# Altium footprint library Capacitors.PcbLib: 70 footprints (part 4 of 5)
Each footprint in its own frame and in the unit in brackets; x right, y up, seen from the top. Pads: shape width x height; smd on the part's side, far side on the other; paste and mask are expansions set on the pad; w line width, h text height; cw(c..) or ccw(c..) is an arc to the next point about the centre after c.
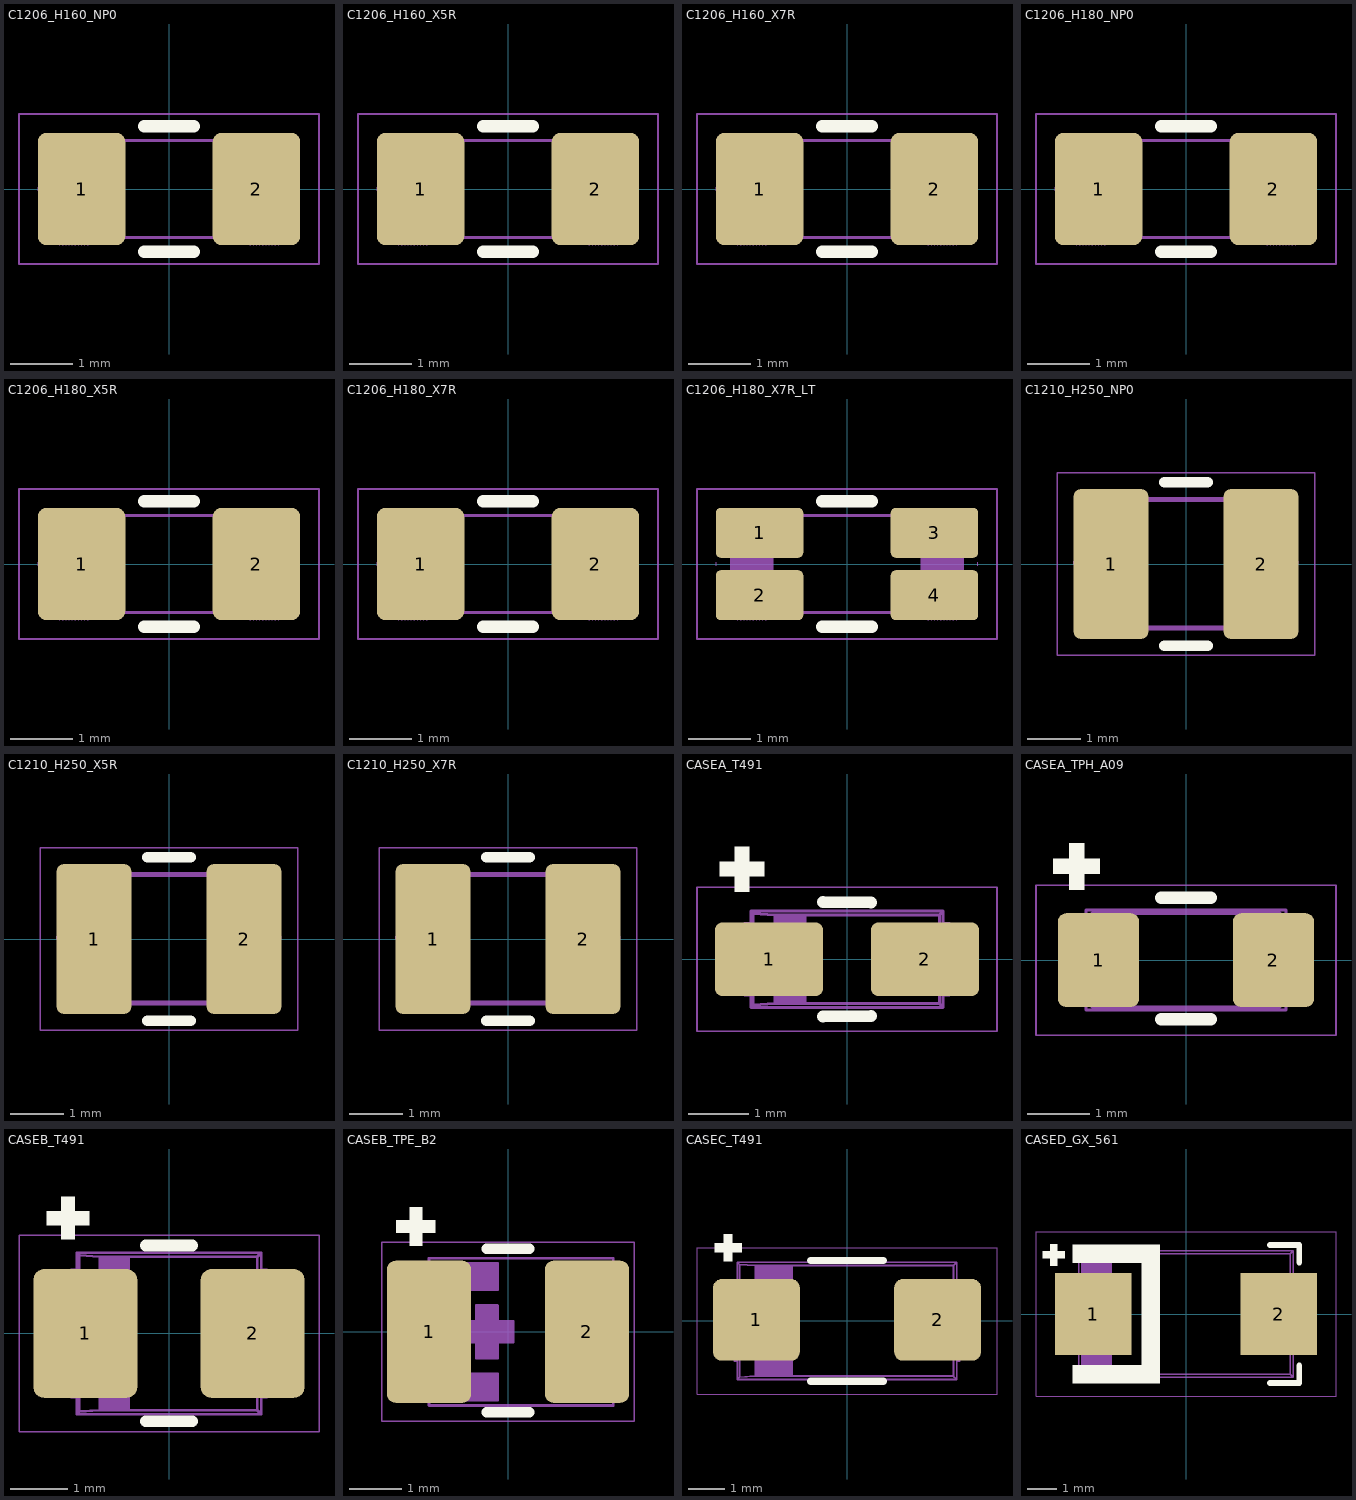
[diagram p3: the footprints below, top view; thin cyan lines are the x and y axes]

## C1206_H160_NP0 [mm] "SMD120632X16MM"
height 1.6
pads (2):
  rrect20% 1.4x1.8 smd paste-3 mask+0.05: 1(-1.4,0) 2(1.4,0)
Top Overlay:
  lines w0.2: -0.4,-1 0.4,-1 ; -0.4,1 0.4,1
Top Paste:
  drawing of 8 lines, arcs and shapes, not listed
Top Courtyard:
  lines w0.025: -2.4,-1.2 2.4,-1.2 2.4,1.2 -2.4,1.2 -2.4,-1.2
Top Assembly:
  lines w0.01: -2.095,-0.025 -2.095,0.025 ; 2.095,-0.025 2.095,0.025
  lines w0.05: -1.8,-0.825 -1.8,0.825 ; -1.7,-0.875 -1.7,0.875 ; -1.65,-0.875 -1.65,0.875 ; -1.6,-0.875 -1.6,0.875 ; -1.55,-0.875 -1.55,0.875 ; -1.5,-0.875 -1.5,0.875 ; -1.45,-0.875 -1.45,0.875 ; -1.4,-0.875 -1.4,0.875 ; -1.35,-0.875 -1.35,0.875 ; -1.25,-0.825 -1.25,0.825 ; 1.25,-0.825 1.25,0.825 ; 1.35,-0.875 1.35,0.875 ; 1.4,-0.875 1.4,0.875 ; 1.45,-0.875 1.45,0.875 ; 1.5,-0.875 1.5,0.875 ; 1.55,-0.875 1.55,0.875 ; 1.6,-0.875 1.6,0.875 ; 1.65,-0.875 1.65,0.875 ; 1.7,-0.875 1.7,0.875 ; 1.8,-0.825 1.8,0.825 ; -1.85,-0.775 ccw(c-1.75,-0.775) -1.75,-0.875 ; -1.85,-0.775 ccw(c-1.85,-0.775) -1.85,-0.775 ; -1.85,-0.775 -1.85,0.775 ; -1.85,0.775 cw(c-1.75,0.775) -1.75,0.875 ; -1.85,0.775 ccw(c-1.85,0.775) -1.85,0.775 ; -1.75,-0.875 -1.3,-0.875 ; -1.75,-0.875 -1.75,0.875 ; -1.75,0.875 -1.3,0.875 ; -1.3,-0.875 ccw(c-1.3,-0.775) -1.2,-0.775 ; -1.3,-0.875 -1.3,0.875 ; -1.3,0.875 cw(c-1.3,0.775) -1.2,0.775 ; -1.2,-0.775 -1.2,0.775 ; -1.2,-0.775 1.2,-0.775 ; -1.2,0.775 1.2,0.775 ; 1.2,-0.775 ccw(c1.3,-0.775) 1.3,-0.875 ; 1.2,-0.775 1.2,0.775 ; 1.2,0.775 cw(c1.3,0.775) 1.3,0.875 ; 1.3,-0.875 1.75,-0.875 ; 1.3,-0.875 1.75,-0.875 ; 1.3,-0.875 1.3,0.875 ; 1.3,0.875 1.75,0.875 ; 1.3,0.875 1.75,0.875 ; 1.75,-0.875 ccw(c1.75,-0.775) 1.85,-0.775 ; 1.75,-0.875 1.75,0.875 ; 1.75,0.875 cw(c1.75,0.775) 1.85,0.775 ; 1.85,-0.775 ccw(c1.85,-0.775) 1.85,-0.775 ; 1.85,-0.775 1.85,0.775 ; 1.85,0.775 ccw(c1.85,0.775) 1.85,0.775 ; 0.45,0.775 ccw(c0.45,0.775) 0.45,0.775
  text ".Designator" at -3.378,-0.339 h1.5
3D body "C1206_H160_NP0.x_t": height 1.6, standoff 0, extent -1.6,-0.8 1.6,0.8

## C1206_H160_X5R [mm] "SMD120632X16MM"
height 1.6
pads (2):
  rrect20% 1.4x1.8 smd paste-3 mask+0.05: 1(-1.4,0) 2(1.4,0)
Top Overlay:
  lines w0.2: -0.4,-1 0.4,-1 ; -0.4,1 0.4,1
Top Paste:
  drawing of 8 lines, arcs and shapes, not listed
Top Courtyard:
  lines w0.025: -2.4,-1.2 -2.4,1.2 2.4,1.2 2.4,-1.2 -2.4,-1.2
Top Assembly:
  lines w0.01: -2.095,-0.025 -2.095,0.025 ; 2.095,-0.025 2.095,0.025
  lines w0.05: -1.8,-0.825 -1.8,0.825 ; -1.7,-0.875 -1.7,0.875 ; -1.65,-0.875 -1.65,0.875 ; -1.6,-0.875 -1.6,0.875 ; -1.55,-0.875 -1.55,0.875 ; -1.5,-0.875 -1.5,0.875 ; -1.45,-0.875 -1.45,0.875 ; -1.4,-0.875 -1.4,0.875 ; -1.35,-0.875 -1.35,0.875 ; -1.25,-0.825 -1.25,0.825 ; 1.25,-0.825 1.25,0.825 ; 1.35,-0.875 1.35,0.875 ; 1.4,-0.875 1.4,0.875 ; 1.45,-0.875 1.45,0.875 ; 1.5,-0.875 1.5,0.875 ; 1.55,-0.875 1.55,0.875 ; 1.6,-0.875 1.6,0.875 ; 1.65,-0.875 1.65,0.875 ; 1.7,-0.875 1.7,0.875 ; 1.8,-0.825 1.8,0.825 ; -1.85,-0.775 ccw(c-1.85,-0.775) -1.85,-0.775 ; -1.85,-0.775 ccw(c-1.75,-0.775) -1.75,-0.875 ; -1.85,-0.775 -1.85,0.775 ; -1.85,0.775 ccw(c-1.85,0.775) -1.85,0.775 ; -1.85,0.775 cw(c-1.75,0.775) -1.75,0.875 ; -1.75,-0.875 -1.75,0.875 ; -1.75,-0.875 -1.3,-0.875 ; -1.75,0.875 -1.3,0.875 ; -1.3,-0.875 ccw(c-1.3,-0.775) -1.2,-0.775 ; -1.3,-0.875 -1.3,0.875 ; -1.3,0.875 cw(c-1.3,0.775) -1.2,0.775 ; -1.2,-0.775 1.2,-0.775 ; -1.2,-0.775 -1.2,0.775 ; -1.2,0.775 1.2,0.775 ; 1.2,-0.775 ccw(c1.3,-0.775) 1.3,-0.875 ; 1.2,-0.775 1.2,0.775 ; 1.2,0.775 cw(c1.3,0.775) 1.3,0.875 ; 1.3,-0.875 1.3,0.875 ; 1.3,-0.875 1.75,-0.875 ; 1.3,-0.875 1.75,-0.875 ; 1.3,0.875 1.75,0.875 ; 1.3,0.875 1.75,0.875 ; 1.75,-0.875 ccw(c1.75,-0.775) 1.85,-0.775 ; 1.75,-0.875 1.75,0.875 ; 1.75,0.875 cw(c1.75,0.775) 1.85,0.775 ; 1.85,-0.775 ccw(c1.85,-0.775) 1.85,-0.775 ; 1.85,-0.775 1.85,0.775 ; 1.85,0.775 ccw(c1.85,0.775) 1.85,0.775 ; 0.45,0.775 ccw(c0.45,0.775) 0.45,0.775
  text ".Designator" at -3.378,-0.339 h1.5
3D body "C1206_H160_X5R.x_t": height 1.6, standoff 0, extent -1.6,-0.8 1.6,0.8

## C1206_H160_X7R [mm] "SMD120632X16MM"
height 1.6
pads (2):
  rrect20% 1.4x1.8 smd paste-3 mask+0.05: 1(-1.4,0) 2(1.4,0)
Top Overlay:
  lines w0.2: -0.4,-1 0.4,-1 ; -0.4,1 0.4,1
Top Paste:
  drawing of 8 lines, arcs and shapes, not listed
Top Courtyard:
  lines w0.025: -2.4,-1.2 -2.4,1.2 2.4,1.2 2.4,-1.2 -2.4,-1.2
Top Assembly:
  lines w0.01: -2.095,-0.025 -2.095,0.025 ; 2.095,-0.025 2.095,0.025
  lines w0.05: -1.8,-0.825 -1.8,0.825 ; -1.7,-0.875 -1.7,0.875 ; -1.65,-0.875 -1.65,0.875 ; -1.6,-0.875 -1.6,0.875 ; -1.55,-0.875 -1.55,0.875 ; -1.5,-0.875 -1.5,0.875 ; -1.45,-0.875 -1.45,0.875 ; -1.4,-0.875 -1.4,0.875 ; -1.35,-0.875 -1.35,0.875 ; -1.25,-0.825 -1.25,0.825 ; 1.25,-0.825 1.25,0.825 ; 1.35,-0.875 1.35,0.875 ; 1.4,-0.875 1.4,0.875 ; 1.45,-0.875 1.45,0.875 ; 1.5,-0.875 1.5,0.875 ; 1.55,-0.875 1.55,0.875 ; 1.6,-0.875 1.6,0.875 ; 1.65,-0.875 1.65,0.875 ; 1.7,-0.875 1.7,0.875 ; 1.8,-0.825 1.8,0.825 ; -1.85,-0.775 ccw(c-1.85,-0.775) -1.85,-0.775 ; -1.85,-0.775 ccw(c-1.75,-0.775) -1.75,-0.875 ; -1.85,-0.775 -1.85,0.775 ; -1.85,0.775 ccw(c-1.85,0.775) -1.85,0.775 ; -1.85,0.775 cw(c-1.75,0.775) -1.75,0.875 ; -1.75,-0.875 -1.75,0.875 ; -1.75,-0.875 -1.3,-0.875 ; -1.75,0.875 -1.3,0.875 ; -1.3,-0.875 ccw(c-1.3,-0.775) -1.2,-0.775 ; -1.3,-0.875 -1.3,0.875 ; -1.3,0.875 cw(c-1.3,0.775) -1.2,0.775 ; -1.2,-0.775 1.2,-0.775 ; -1.2,-0.775 -1.2,0.775 ; -1.2,0.775 1.2,0.775 ; 1.2,-0.775 ccw(c1.3,-0.775) 1.3,-0.875 ; 1.2,-0.775 1.2,0.775 ; 1.2,0.775 cw(c1.3,0.775) 1.3,0.875 ; 1.3,-0.875 1.3,0.875 ; 1.3,-0.875 1.75,-0.875 ; 1.3,-0.875 1.75,-0.875 ; 1.3,0.875 1.75,0.875 ; 1.3,0.875 1.75,0.875 ; 1.75,-0.875 ccw(c1.75,-0.775) 1.85,-0.775 ; 1.75,-0.875 1.75,0.875 ; 1.75,0.875 cw(c1.75,0.775) 1.85,0.775 ; 1.85,-0.775 ccw(c1.85,-0.775) 1.85,-0.775 ; 1.85,-0.775 1.85,0.775 ; 1.85,0.775 ccw(c1.85,0.775) 1.85,0.775 ; 0.45,0.775 ccw(c0.45,0.775) 0.45,0.775
  text ".Designator" at -3.378,-0.339 h1.5
3D body "C1206_H160_X7R.x_t": height 1.6, standoff 0, extent -1.6,-0.8 1.6,0.8

## C1206_H180_NP0 [mm] "SMD120632X16MM"
height 1.8
pads (2):
  rrect20% 1.4x1.8 smd paste-3 mask+0.05: 1(-1.4,0) 2(1.4,0)
Top Overlay:
  lines w0.2: -0.4,-1 0.4,-1 ; -0.4,1 0.4,1
Top Paste:
  drawing of 8 lines, arcs and shapes, not listed
Top Courtyard:
  lines w0.025: -2.4,-1.2 -2.4,1.2 2.4,1.2 2.4,-1.2 -2.4,-1.2
Top Assembly:
  lines w0.01: -2.095,-0.025 -2.095,0.025 ; 2.095,-0.025 2.095,0.025
  lines w0.05: -1.8,-0.825 -1.8,0.825 ; -1.7,-0.875 -1.7,0.875 ; -1.65,-0.875 -1.65,0.875 ; -1.6,-0.875 -1.6,0.875 ; -1.55,-0.875 -1.55,0.875 ; -1.5,-0.875 -1.5,0.875 ; -1.45,-0.875 -1.45,0.875 ; -1.4,-0.875 -1.4,0.875 ; -1.35,-0.875 -1.35,0.875 ; -1.25,-0.825 -1.25,0.825 ; 1.25,-0.825 1.25,0.825 ; 1.35,-0.875 1.35,0.875 ; 1.4,-0.875 1.4,0.875 ; 1.45,-0.875 1.45,0.875 ; 1.5,-0.875 1.5,0.875 ; 1.55,-0.875 1.55,0.875 ; 1.6,-0.875 1.6,0.875 ; 1.65,-0.875 1.65,0.875 ; 1.7,-0.875 1.7,0.875 ; 1.8,-0.825 1.8,0.825 ; -1.85,-0.775 ccw(c-1.85,-0.775) -1.85,-0.775 ; -1.85,-0.775 ccw(c-1.75,-0.775) -1.75,-0.875 ; -1.85,-0.775 -1.85,0.775 ; -1.85,0.775 ccw(c-1.85,0.775) -1.85,0.775 ; -1.85,0.775 cw(c-1.75,0.775) -1.75,0.875 ; -1.75,-0.875 -1.75,0.875 ; -1.75,-0.875 -1.3,-0.875 ; -1.75,0.875 -1.3,0.875 ; -1.3,-0.875 ccw(c-1.3,-0.775) -1.2,-0.775 ; -1.3,-0.875 -1.3,0.875 ; -1.3,0.875 cw(c-1.3,0.775) -1.2,0.775 ; -1.2,-0.775 1.2,-0.775 ; -1.2,-0.775 -1.2,0.775 ; -1.2,0.775 1.2,0.775 ; 1.2,-0.775 ccw(c1.3,-0.775) 1.3,-0.875 ; 1.2,-0.775 1.2,0.775 ; 1.2,0.775 cw(c1.3,0.775) 1.3,0.875 ; 1.3,-0.875 1.3,0.875 ; 1.3,-0.875 1.75,-0.875 ; 1.3,-0.875 1.75,-0.875 ; 1.3,0.875 1.75,0.875 ; 1.3,0.875 1.75,0.875 ; 1.75,-0.875 ccw(c1.75,-0.775) 1.85,-0.775 ; 1.75,-0.875 1.75,0.875 ; 1.75,0.875 cw(c1.75,0.775) 1.85,0.775 ; 1.85,-0.775 ccw(c1.85,-0.775) 1.85,-0.775 ; 1.85,-0.775 1.85,0.775 ; 1.85,0.775 ccw(c1.85,0.775) 1.85,0.775 ; 0.45,0.775 ccw(c0.45,0.775) 0.45,0.775
  text ".Designator" at -3.378,-0.339 h1.5
3D body "C1206_H180_NP0.x_t": height 1.8, standoff 0, extent -1.6,-0.8 1.6,0.8

## C1206_H180_X5R [mm] "SMD120632X16MM"
height 1.8
pads (2):
  rrect20% 1.4x1.8 smd paste-3 mask+0.05: 1(-1.4,0) 2(1.4,0)
Top Overlay:
  lines w0.2: -0.4,-1 0.4,-1 ; -0.4,1 0.4,1
Top Paste:
  drawing of 8 lines, arcs and shapes, not listed
Top Courtyard:
  lines w0.025: -2.4,-1.2 -2.4,1.2 2.4,1.2 2.4,-1.2 -2.4,-1.2
Top Assembly:
  lines w0.01: -2.095,-0.025 -2.095,0.025 ; 2.095,-0.025 2.095,0.025
  lines w0.05: -1.8,-0.825 -1.8,0.825 ; -1.7,-0.875 -1.7,0.875 ; -1.65,-0.875 -1.65,0.875 ; -1.6,-0.875 -1.6,0.875 ; -1.55,-0.875 -1.55,0.875 ; -1.5,-0.875 -1.5,0.875 ; -1.45,-0.875 -1.45,0.875 ; -1.4,-0.875 -1.4,0.875 ; -1.35,-0.875 -1.35,0.875 ; -1.25,-0.825 -1.25,0.825 ; 1.25,-0.825 1.25,0.825 ; 1.35,-0.875 1.35,0.875 ; 1.4,-0.875 1.4,0.875 ; 1.45,-0.875 1.45,0.875 ; 1.5,-0.875 1.5,0.875 ; 1.55,-0.875 1.55,0.875 ; 1.6,-0.875 1.6,0.875 ; 1.65,-0.875 1.65,0.875 ; 1.7,-0.875 1.7,0.875 ; 1.8,-0.825 1.8,0.825 ; -1.85,-0.775 ccw(c-1.85,-0.775) -1.85,-0.775 ; -1.85,-0.775 ccw(c-1.75,-0.775) -1.75,-0.875 ; -1.85,-0.775 -1.85,0.775 ; -1.85,0.775 ccw(c-1.85,0.775) -1.85,0.775 ; -1.85,0.775 cw(c-1.75,0.775) -1.75,0.875 ; -1.75,-0.875 -1.75,0.875 ; -1.75,-0.875 -1.3,-0.875 ; -1.75,0.875 -1.3,0.875 ; -1.3,-0.875 ccw(c-1.3,-0.775) -1.2,-0.775 ; -1.3,-0.875 -1.3,0.875 ; -1.3,0.875 cw(c-1.3,0.775) -1.2,0.775 ; -1.2,-0.775 1.2,-0.775 ; -1.2,-0.775 -1.2,0.775 ; -1.2,0.775 1.2,0.775 ; 1.2,-0.775 ccw(c1.3,-0.775) 1.3,-0.875 ; 1.2,-0.775 1.2,0.775 ; 1.2,0.775 cw(c1.3,0.775) 1.3,0.875 ; 1.3,-0.875 1.3,0.875 ; 1.3,-0.875 1.75,-0.875 ; 1.3,-0.875 1.75,-0.875 ; 1.3,0.875 1.75,0.875 ; 1.3,0.875 1.75,0.875 ; 1.75,-0.875 ccw(c1.75,-0.775) 1.85,-0.775 ; 1.75,-0.875 1.75,0.875 ; 1.75,0.875 cw(c1.75,0.775) 1.85,0.775 ; 1.85,-0.775 ccw(c1.85,-0.775) 1.85,-0.775 ; 1.85,-0.775 1.85,0.775 ; 1.85,0.775 ccw(c1.85,0.775) 1.85,0.775 ; 0.45,0.775 ccw(c0.45,0.775) 0.45,0.775
  text ".Designator" at -3.378,-0.339 h1.5
3D body "C1206_H180_X5R.x_t": height 1.8, standoff 0, extent -1.6,-0.8 1.6,0.8

## C1206_H180_X7R [mm] "SMD120632X16MM"
height 1.8
pads (2):
  rrect20% 1.4x1.8 smd paste-3 mask+0.05: 1(-1.4,0) 2(1.4,0)
Top Overlay:
  lines w0.2: -0.4,-1 0.4,-1 ; -0.4,1 0.4,1
Top Paste:
  drawing of 8 lines, arcs and shapes, not listed
Top Courtyard:
  lines w0.025: -2.4,-1.2 2.4,-1.2 2.4,1.2 -2.4,1.2 -2.4,-1.2
Top Assembly:
  lines w0.01: -2.095,-0.025 -2.095,0.025 ; 2.095,-0.025 2.095,0.025
  lines w0.05: -1.8,-0.825 -1.8,0.825 ; -1.7,-0.875 -1.7,0.875 ; -1.65,-0.875 -1.65,0.875 ; -1.6,-0.875 -1.6,0.875 ; -1.55,-0.875 -1.55,0.875 ; -1.5,-0.875 -1.5,0.875 ; -1.45,-0.875 -1.45,0.875 ; -1.4,-0.875 -1.4,0.875 ; -1.35,-0.875 -1.35,0.875 ; -1.25,-0.825 -1.25,0.825 ; 1.25,-0.825 1.25,0.825 ; 1.35,-0.875 1.35,0.875 ; 1.4,-0.875 1.4,0.875 ; 1.45,-0.875 1.45,0.875 ; 1.5,-0.875 1.5,0.875 ; 1.55,-0.875 1.55,0.875 ; 1.6,-0.875 1.6,0.875 ; 1.65,-0.875 1.65,0.875 ; 1.7,-0.875 1.7,0.875 ; 1.8,-0.825 1.8,0.825 ; -1.85,-0.775 ccw(c-1.75,-0.775) -1.75,-0.875 ; -1.85,-0.775 ccw(c-1.85,-0.775) -1.85,-0.775 ; -1.85,-0.775 -1.85,0.775 ; -1.85,0.775 cw(c-1.75,0.775) -1.75,0.875 ; -1.85,0.775 ccw(c-1.85,0.775) -1.85,0.775 ; -1.75,-0.875 -1.3,-0.875 ; -1.75,-0.875 -1.75,0.875 ; -1.75,0.875 -1.3,0.875 ; -1.3,-0.875 ccw(c-1.3,-0.775) -1.2,-0.775 ; -1.3,-0.875 -1.3,0.875 ; -1.3,0.875 cw(c-1.3,0.775) -1.2,0.775 ; -1.2,-0.775 -1.2,0.775 ; -1.2,-0.775 1.2,-0.775 ; -1.2,0.775 1.2,0.775 ; 1.2,-0.775 ccw(c1.3,-0.775) 1.3,-0.875 ; 1.2,-0.775 1.2,0.775 ; 1.2,0.775 cw(c1.3,0.775) 1.3,0.875 ; 1.3,-0.875 1.75,-0.875 ; 1.3,-0.875 1.75,-0.875 ; 1.3,-0.875 1.3,0.875 ; 1.3,0.875 1.75,0.875 ; 1.3,0.875 1.75,0.875 ; 1.75,-0.875 ccw(c1.75,-0.775) 1.85,-0.775 ; 1.75,-0.875 1.75,0.875 ; 1.75,0.875 cw(c1.75,0.775) 1.85,0.775 ; 1.85,-0.775 ccw(c1.85,-0.775) 1.85,-0.775 ; 1.85,-0.775 1.85,0.775 ; 1.85,0.775 ccw(c1.85,0.775) 1.85,0.775 ; 0.45,0.775 ccw(c0.45,0.775) 0.45,0.775
  text ".Designator" at -3.378,-0.339 h1.5
3D body "C1206_H180_X7R.x_t": height 1.8, standoff 0, extent -1.6,-0.8 1.6,0.8

## C1206_H180_X7R_LT [mm] "SMD120632X16MM"
height 1.8
pads (4):
  rrect20% 1.4x0.8 smd mask+0.05: 1(-1.4,0.5) 2(-1.4,-0.5) 3(1.4,0.5) 4(1.4,-0.5)
Top Overlay:
  lines w0.2: -0.4,-1 0.4,-1 ; -0.4,1 0.4,1
Top Courtyard:
  lines w0.025: -2.4,-1.2 -2.4,1.2 2.4,1.2 2.4,-1.2 -2.4,-1.2
Top Assembly:
  lines w0.01: -2.095,-0.025 -2.095,0.025 ; 2.095,-0.025 2.095,0.025
  lines w0.05: -1.8,-0.825 -1.8,0.825 ; -1.7,-0.875 -1.7,0.875 ; -1.65,-0.875 -1.65,0.875 ; -1.6,-0.875 -1.6,0.875 ; -1.55,-0.875 -1.55,0.875 ; -1.5,-0.875 -1.5,0.875 ; -1.45,-0.875 -1.45,0.875 ; -1.4,-0.875 -1.4,0.875 ; -1.35,-0.875 -1.35,0.875 ; -1.25,-0.825 -1.25,0.825 ; 1.25,-0.825 1.25,0.825 ; 1.35,-0.875 1.35,0.875 ; 1.4,-0.875 1.4,0.875 ; 1.45,-0.875 1.45,0.875 ; 1.5,-0.875 1.5,0.875 ; 1.55,-0.875 1.55,0.875 ; 1.6,-0.875 1.6,0.875 ; 1.65,-0.875 1.65,0.875 ; 1.7,-0.875 1.7,0.875 ; 1.8,-0.825 1.8,0.825 ; -1.85,-0.775 ccw(c-1.85,-0.775) -1.85,-0.775 ; -1.85,-0.775 ccw(c-1.75,-0.775) -1.75,-0.875 ; -1.85,-0.775 -1.85,0.775 ; -1.85,0.775 ccw(c-1.85,0.775) -1.85,0.775 ; -1.85,0.775 cw(c-1.75,0.775) -1.75,0.875 ; -1.75,-0.875 -1.75,0.875 ; -1.75,-0.875 -1.3,-0.875 ; -1.75,0.875 -1.3,0.875 ; -1.3,-0.875 ccw(c-1.3,-0.775) -1.2,-0.775 ; -1.3,-0.875 -1.3,0.875 ; -1.3,0.875 cw(c-1.3,0.775) -1.2,0.775 ; -1.2,-0.775 1.2,-0.775 ; -1.2,-0.775 -1.2,0.775 ; -1.2,0.775 1.2,0.775 ; 1.2,-0.775 ccw(c1.3,-0.775) 1.3,-0.875 ; 1.2,-0.775 1.2,0.775 ; 1.2,0.775 cw(c1.3,0.775) 1.3,0.875 ; 1.3,-0.875 1.3,0.875 ; 1.3,-0.875 1.75,-0.875 ; 1.3,-0.875 1.75,-0.875 ; 1.3,0.875 1.75,0.875 ; 1.3,0.875 1.75,0.875 ; 1.75,-0.875 ccw(c1.75,-0.775) 1.85,-0.775 ; 1.75,-0.875 1.75,0.875 ; 1.75,0.875 cw(c1.75,0.775) 1.85,0.775 ; 1.85,-0.775 ccw(c1.85,-0.775) 1.85,-0.775 ; 1.85,-0.775 1.85,0.775 ; 1.85,0.775 ccw(c1.85,0.775) 1.85,0.775 ; 0.45,0.775 ccw(c0.45,0.775) 0.45,0.775
  text ".Designator" at -3.378,-0.339 h1.5
3D body "C1206_H180_X7R.x_t": height 1.8, standoff 0, extent -1.6,-0.8 1.6,0.8

## C1210_H250_NP0 [mm] "SMD121032X25MM"
height 2.5
pads (2):
  rrect20% 1.4x2.8 smd paste-3 mask+0.05: 1(-1.4,0) 2(1.4,0)
Top Overlay:
  lines w0.2: -0.4,-1.525 0.4,-1.525 ; -0.4,1.525 0.4,1.525
Top Paste:
  drawing of 12 lines, arcs and shapes, not listed
Top Courtyard:
  lines w0.025: -2.4,-1.7 2.4,-1.7 2.4,1.7 -2.4,1.7 -2.4,-1.7
Top Assembly:
  lines w0.01: -2.095,0 -2.095,0.05 ; 2.095,0 2.095,0.05
  lines w0.05: -1.538,-1.216 -1.538,1.224 ; -1.488,-1.216 -1.488,1.224 ; -1.438,-1.216 -1.438,1.224 ; -1.388,-1.216 -1.388,1.224 ; -1.338,-1.216 -1.338,1.224 ; -1.288,-1.216 -1.288,1.224 ; -1.238,-1.216 -1.238,1.224 ; -1.188,-1.216 -1.188,1.224 ; -1.138,-1.216 -1.138,1.224 ; -1.103,-1.176 1.097,-1.176 ; -1.103,1.184 1.097,1.184 ; 1.097,-1.216 -1.103,-1.216 ; 1.097,1.224 -1.103,1.224 ; 1.138,-1.216 1.138,1.224 ; 1.188,-1.216 1.188,1.224 ; 1.238,-1.216 1.238,1.224 ; 1.288,-1.216 1.288,1.224 ; 1.338,-1.216 1.338,1.224 ; 1.388,-1.216 1.388,1.224 ; 1.438,-1.216 1.438,1.224 ; 1.488,-1.216 1.488,1.224 ; 1.538,-1.216 1.538,1.224 ; -1.603,-1.216 ccw(c-1.573,-1.216) -1.573,-1.246 ; -1.603,-1.216 -1.603,1.224 ; -1.603,-1.216 -1.573,-1.216 ; -1.603,1.224 cw(c-1.573,1.224) -1.573,1.254 ; -1.603,1.224 -1.573,1.224 ; -1.573,-1.246 -1.103,-1.246 -1.103,-1.216 ; -1.573,-1.246 -1.573,-1.216 ; -1.573,-1.216 -1.573,1.224 ; -1.573,-1.216 -1.103,-1.216 ; -1.573,1.224 -1.103,1.224 ; -1.573,1.224 -1.573,1.254 ; -1.573,1.254 -1.103,1.254 -1.103,1.224 ; -1.103,-1.216 -1.103,1.224 ; 1.103,-1.216 1.103,1.224 ; 1.103,-1.216 1.103,-1.246 1.573,-1.246 ; 1.103,-1.216 1.573,-1.216 ; 1.103,1.224 1.103,1.254 1.573,1.254 ; 1.103,1.224 1.573,1.224 ; 1.573,-1.246 ccw(c1.573,-1.216) 1.603,-1.216 ; 1.573,-1.246 1.573,-1.216 ; 1.573,-1.216 1.573,1.224 ; 1.573,-1.216 1.603,-1.216 ; 1.573,1.224 1.603,1.224 ; 1.573,1.224 1.573,1.254 ; 1.573,1.254 cw(c1.573,1.224) 1.603,1.224 ; 1.603,-1.216 1.603,1.224
  text ".Designator" at -3.378,-0.339 h1.5
3D body "C1210_H250_NP0.x_t": height 2.5, standoff 0, extent -1.6,-1.25 1.6,1.25

## C1210_H250_X5R [mm] "SMD121032X25MM"
height 2.5
pads (2):
  rrect20% 1.4x2.8 smd paste-3 mask+0.05: 1(-1.4,0) 2(1.4,0)
Top Overlay:
  lines w0.2: -0.4,-1.525 0.4,-1.525 ; -0.4,1.525 0.4,1.525
Top Paste:
  drawing of 12 lines, arcs and shapes, not listed
Top Courtyard:
  lines w0.025: -2.4,-1.7 2.4,-1.7 2.4,1.7 -2.4,1.7 -2.4,-1.7
Top Assembly:
  lines w0.01: -2.095,0 -2.095,0.05 ; 2.095,0 2.095,0.05
  lines w0.05: -1.538,-1.216 -1.538,1.224 ; -1.488,-1.216 -1.488,1.224 ; -1.438,-1.216 -1.438,1.224 ; -1.388,-1.216 -1.388,1.224 ; -1.338,-1.216 -1.338,1.224 ; -1.288,-1.216 -1.288,1.224 ; -1.238,-1.216 -1.238,1.224 ; -1.188,-1.216 -1.188,1.224 ; -1.138,-1.216 -1.138,1.224 ; -1.103,-1.176 1.097,-1.176 ; -1.103,1.184 1.097,1.184 ; 1.097,-1.216 -1.103,-1.216 ; 1.097,1.224 -1.103,1.224 ; 1.138,-1.216 1.138,1.224 ; 1.188,-1.216 1.188,1.224 ; 1.238,-1.216 1.238,1.224 ; 1.288,-1.216 1.288,1.224 ; 1.338,-1.216 1.338,1.224 ; 1.388,-1.216 1.388,1.224 ; 1.438,-1.216 1.438,1.224 ; 1.488,-1.216 1.488,1.224 ; 1.538,-1.216 1.538,1.224 ; -1.603,-1.216 ccw(c-1.573,-1.216) -1.573,-1.246 ; -1.603,-1.216 -1.573,-1.216 ; -1.603,-1.216 -1.603,1.224 ; -1.603,1.224 cw(c-1.573,1.224) -1.573,1.254 ; -1.603,1.224 -1.573,1.224 ; -1.573,-1.246 -1.573,-1.216 ; -1.573,-1.246 -1.103,-1.246 -1.103,-1.216 ; -1.573,-1.216 -1.103,-1.216 ; -1.573,-1.216 -1.573,1.224 ; -1.573,1.224 -1.573,1.254 ; -1.573,1.224 -1.103,1.224 ; -1.573,1.254 -1.103,1.254 -1.103,1.224 ; -1.103,-1.216 -1.103,1.224 ; 1.103,-1.216 1.573,-1.216 ; 1.103,-1.216 1.103,-1.246 1.573,-1.246 ; 1.103,-1.216 1.103,1.224 ; 1.103,1.224 1.573,1.224 ; 1.103,1.224 1.103,1.254 1.573,1.254 ; 1.573,-1.246 ccw(c1.573,-1.216) 1.603,-1.216 ; 1.573,-1.246 1.573,-1.216 ; 1.573,-1.216 1.603,-1.216 ; 1.573,-1.216 1.573,1.224 ; 1.573,1.224 1.573,1.254 ; 1.573,1.224 1.603,1.224 ; 1.573,1.254 cw(c1.573,1.224) 1.603,1.224 ; 1.603,-1.216 1.603,1.224
  text ".Designator" at -3.378,-0.339 h1.5
3D body "C1210_H250_X5R.x_t": height 2.5, standoff 0, extent -1.6,-1.25 1.6,1.25

## C1210_H250_X7R [mm] "SMD121032X25MM"
height 2.5
pads (2):
  rrect20% 1.4x2.8 smd paste-3 mask+0.05: 1(-1.4,0) 2(1.4,0)
Top Overlay:
  lines w0.2: -0.4,-1.525 0.4,-1.525 ; -0.4,1.525 0.4,1.525
Top Paste:
  drawing of 12 lines, arcs and shapes, not listed
Top Courtyard:
  lines w0.025: -2.4,-1.7 -2.4,1.7 2.4,1.7 2.4,-1.7 -2.4,-1.7
Top Assembly:
  lines w0.01: -2.095,0 -2.095,0.05 ; 2.095,0 2.095,0.05
  lines w0.05: -1.538,-1.216 -1.538,1.224 ; -1.488,-1.216 -1.488,1.224 ; -1.438,-1.216 -1.438,1.224 ; -1.388,-1.216 -1.388,1.224 ; -1.338,-1.216 -1.338,1.224 ; -1.288,-1.216 -1.288,1.224 ; -1.238,-1.216 -1.238,1.224 ; -1.188,-1.216 -1.188,1.224 ; -1.138,-1.216 -1.138,1.224 ; -1.103,-1.176 1.097,-1.176 ; -1.103,1.184 1.097,1.184 ; 1.097,-1.216 -1.103,-1.216 ; 1.097,1.224 -1.103,1.224 ; 1.138,-1.216 1.138,1.224 ; 1.188,-1.216 1.188,1.224 ; 1.238,-1.216 1.238,1.224 ; 1.288,-1.216 1.288,1.224 ; 1.338,-1.216 1.338,1.224 ; 1.388,-1.216 1.388,1.224 ; 1.438,-1.216 1.438,1.224 ; 1.488,-1.216 1.488,1.224 ; 1.538,-1.216 1.538,1.224 ; -1.603,-1.216 ccw(c-1.573,-1.216) -1.573,-1.246 ; -1.603,-1.216 -1.603,1.224 ; -1.603,-1.216 -1.573,-1.216 ; -1.603,1.224 cw(c-1.573,1.224) -1.573,1.254 ; -1.603,1.224 -1.573,1.224 ; -1.573,-1.246 -1.103,-1.246 -1.103,-1.216 ; -1.573,-1.246 -1.573,-1.216 ; -1.573,-1.216 -1.573,1.224 ; -1.573,-1.216 -1.103,-1.216 ; -1.573,1.224 -1.103,1.224 ; -1.573,1.224 -1.573,1.254 ; -1.573,1.254 -1.103,1.254 -1.103,1.224 ; -1.103,-1.216 -1.103,1.224 ; 1.103,-1.216 1.103,1.224 ; 1.103,-1.216 1.103,-1.246 1.573,-1.246 ; 1.103,-1.216 1.573,-1.216 ; 1.103,1.224 1.103,1.254 1.573,1.254 ; 1.103,1.224 1.573,1.224 ; 1.573,-1.246 ccw(c1.573,-1.216) 1.603,-1.216 ; 1.573,-1.246 1.573,-1.216 ; 1.573,-1.216 1.573,1.224 ; 1.573,-1.216 1.603,-1.216 ; 1.573,1.224 1.603,1.224 ; 1.573,1.224 1.573,1.254 ; 1.573,1.254 cw(c1.573,1.224) 1.603,1.224 ; 1.603,-1.216 1.603,1.224
  text ".Designator" at -3.378,-0.339 h1.5
3D body "C1210_H250_X7R.x_t": height 2.5, standoff 0, extent -1.6,-1.25 1.6,1.25

## CASEA_T491 [mm] "Capacitor Case A T491 Series KEMET. Density Level B"
height 1.6
pads (2):
  rrect20% 1.8x1.23 smd paste-3 mask+0.05: 1(-1.3,0) 2(1.3,0)
Top Overlay:
  rectangle: -1.875,1.125 -1.625,1.875
  rectangle: -2.125,1.375 -1.375,1.625
  lines w0.2: -0.4,-0.95 0.4,-0.95 ; -0.4,0.95 0.4,0.95
Top Paste:
  drawing of 8 lines, arcs and shapes, not listed
Top Courtyard:
  lines w0.025: -2.5,-1.2 -2.5,1.2 2.5,1.2 2.5,-1.2 -2.5,-1.2
Top Assembly:
  lines w0.05: -1.71,-0.2 -1.6,-0.2 ; -1.71,0.2 -1.6,0.2 ; -1.61,-0.6 -1.61,-0.2 ; -1.61,0.2 -1.61,0.6 ; -1.6,-0.6 -1.71,-0.6 -1.71,0.6 -1.6,0.6 ; -1.15,-0.741 -1.15,0.741 ; -1.1,-0.741 -1.1,0.741 ; -1.05,-0.741 -1.05,0.741 ; -1,-0.741 -1,0.741 ; -0.95,-0.741 -0.95,0.741 ; -0.9,-0.741 -0.9,0.741 ; -0.85,-0.741 -0.85,0.741 ; -0.8,-0.741 -0.8,0.741 ; -0.75,-0.741 -0.75,0.741 ; -0.7,-0.741 -0.7,0.741 ; 1.6,-0.6 1.71,-0.6 1.71,0.6 1.6,0.6 ; 1.6,-0.2 1.71,-0.2 ; 1.6,0.2 1.71,0.2 ; 1.61,-0.6 1.61,-0.2 ; 1.61,0.2 1.61,0.6 ; -1.6,-0.8 -1.6,0.8 ; -1.6,-0.8 -1.566,-0.766 ; -1.6,-0.8 1.6,-0.8 ; -1.6,0.8 1.6,0.8 ; -1.6,0.8 -1.566,0.766 ; -1.566,-0.766 -1.566,0.766 ; -1.566,-0.766 -1.2,-0.741 ; -1.566,0.766 -1.2,0.741 ; -1.2,-0.741 -1.2,0.741 ; -1.2,-0.741 1.541,-0.741 ; -1.2,0.741 1.541,0.741 ; 1.541,-0.741 1.6,-0.8 ; 1.541,-0.741 1.541,0.741 ; 1.541,0.741 1.6,0.8 ; 1.6,-0.8 1.6,0.8
  text ".Designator" at -2.284,-0.271 h1.2
3D body "CASEA_T491.x_t": height 1.63, standoff -0.03, extent -1.709,-0.8 1.71,0.8

## CASEA_TPH_A09 [mm] "Capacitor TPH-Series A09 Package"
height 0.9
pads (2):
  rrect20% 1.3x1.5 smd mask+0.05: 1(-1.4,0) 2(1.4,0)
Top Overlay:
  rectangle: -2.125,1.375 -1.375,1.625
  rectangle: -1.875,1.125 -1.625,1.875
  lines w0.2: -0.4,-0.95 0.4,-0.95 ; -0.4,1 0.4,1
Top Courtyard:
  lines w0.025: -2.4,-1.2 2.4,-1.2 2.4,1.2 -2.4,1.2 -2.4,-1.2
Top Assembly:
  circle w0.05: c-1.15,0 r0.325
  lines w0.05: -1.6,-0.6 -1.7,-0.6 -1.7,0.6 -1.6,0.6 ; 1.6,-0.6 1.7,-0.6 1.7,0.6 1.6,0.6 ; -1.6,-0.8 1.6,-0.8 1.6,0.8 -1.6,0.8 -1.6,-0.8 ; -1.55,-0.7 cw(c-1.55,-0.75) -1.5,-0.75 1.5,-0.75 cw(c1.55,-0.75) 1.55,-0.7 1.55,0.7 cw(c1.55,0.75) 1.5,0.75 -1.5,0.75 cw(c-1.55,0.75) -1.55,0.7 -1.55,-0.7
  text ".Designator" at -2.252,-0.226 h1
3D body "TPH_A09.x_t": height 0.89, standoff 0, extent -1.7,-0.8 1.7,0.8

## CASEB_T491 [mm] "Capacitor Case B T491 Series KEMET. Density Level B"
height 1.9
pads (2):
  rrect20% 1.8x2.23 smd paste-3 mask+0.05: 1(-1.45,0) 2(1.45,0)
Top Overlay:
  rectangle: -2.125,1.875 -1.375,2.125
  rectangle: -1.875,1.625 -1.625,2.375
  lines w0.2: -0.4,-1.525 0.4,-1.525 ; -0.4,1.525 0.4,1.525
Top Paste:
  drawing of 8 lines, arcs and shapes, not listed
Top Courtyard:
  lines w0.025: -2.6,-1.7 -2.6,1.7 2.6,1.7 2.6,-1.7 -2.6,-1.7
Top Assembly:
  lines w0.05: -1.699,-0.5 -1.6,-0.5 ; -1.699,0.5 -1.6,0.5 ; -1.6,-1.1 -1.699,-1.1 -1.699,1.1 -1.6,1.1 ; -1.15,-1.33 -1.15,1.33 ; -1.1,-1.33 -1.1,1.33 ; -1.05,-1.33 -1.05,1.33 ; -1,-1.33 -1,1.33 ; -0.95,-1.33 -0.95,1.33 ; -0.9,-1.33 -0.9,1.33 ; -0.85,-1.33 -0.85,1.33 ; -0.8,-1.33 -0.8,1.33 ; -0.75,-1.33 -0.75,1.33 ; -0.7,-1.33 -0.7,1.33 ; 1.6,-1.1 1.699,-1.1 1.699,1.1 1.6,1.1 ; 1.6,-0.5 1.699,-0.5 ; 1.6,0.5 1.699,0.5 ; -1.6,-1.4 1.6,-1.4 ; -1.6,-1.4 -1.555,-1.355 ; -1.6,-1.4 -1.6,1.4 ; -1.6,1.4 -1.555,1.355 ; -1.6,1.4 1.6,1.4 ; -1.555,-1.355 -1.2,-1.33 ; -1.555,-1.355 -1.555,1.355 ; -1.555,1.355 -1.2,1.33 ; -1.2,-1.33 1.53,-1.33 ; -1.2,-1.33 -1.2,1.33 ; -1.2,1.33 1.53,1.33 ; 1.53,-1.33 1.6,-1.4 ; 1.53,-1.33 1.53,1.33 ; 1.53,1.33 1.6,1.4 ; 1.6,-1.4 1.6,1.4
  text ".Designator" at -2.289,-0.271 h1.2
3D body "CASEB_T491.x_t": height 1.93, standoff -0.03, extent -1.699,-1.4 1.699,1.4

## CASEB_TPE_B2 [mm] "Capacitor TPE-Series B2 Package"
height 1.9
pads (2):
  rrect20% 1.6x2.7 smd paste-3 mask+0.05: 1(-1.5,0) 2(1.5,0)
Top Overlay:
  rectangle: -1.875,1.625 -1.625,2.375
  rectangle: -2.125,1.875 -1.375,2.125
  lines w0.2: -0.4,-1.525 0.4,-1.525 ; -0.4,1.575 0.4,1.575
Top Paste:
  drawing of 8 lines, arcs and shapes, not listed
Top Courtyard:
  lines w0.025: -2.4,-1.7 -2.4,1.7 2.4,1.7 2.4,-1.7 -2.4,-1.7
Top Assembly:
  lines w0.05: -1.5,-1.1 -1.7,-1.1 -1.7,1.1 -1.5,1.1 ; -1.35,-1.3 -1.35,1.3 ; -1.3,-1.3 -1.3,1.3 ; -1.25,-1.3 -1.25,1.3 ; -1.2,-1.3 -1.2,1.3 ; -1.15,-1.3 -1.15,1.3 ; -1.1,-1.3 -1.1,-0.8 ; -1.1,1.3 -1.1,0.8 ; -1.05,-1.3 -1.05,-0.8 ; -1.05,0.8 -1.05,1.3 ; -1,-1.3 -1,-0.8 ; -1,0.8 -1,1.3 ; -0.95,-1.3 -0.95,-0.8 ; -0.95,0.8 -0.95,1.3 ; -0.9,-1.3 -0.9,-0.8 ; -0.9,0.8 -0.9,1.3 ; -0.85,-1.3 -0.85,-0.8 ; -0.85,-0.2 -0.85,0.2 ; -0.85,0.8 -0.85,1.3 ; -0.8,-1.3 -0.8,-0.8 ; -0.8,-0.2 -0.8,0.2 ; -0.8,0.8 -0.8,1.3 ; -0.75,-1.3 -0.75,-0.8 ; -0.75,-0.2 -0.75,0.2 ; -0.75,0.8 -0.75,1.3 ; -0.7,-1.3 -0.7,-0.8 ; -0.7,-0.2 -0.7,0.2 ; -0.7,0.8 -0.7,1.3 ; -0.65,-1.3 -0.65,-0.8 ; -0.65,-0.2 -0.65,0.2 ; -0.65,0.8 -0.65,1.3 ; -0.601,-0.188 -0.601,0.212 ; -0.6,-1.3 -0.6,-0.8 ; -0.6,0.8 -0.6,1.3 ; -0.55,-1.3 -0.55,-0.8 ; -0.55,-0.5 -0.55,0.5 ; -0.55,0.8 -0.55,1.3 ; -0.5,-1.3 -0.5,-0.8 ; -0.5,-0.5 -0.5,0.5 ; -0.5,0.8 -0.5,1.3 ; -0.45,-1.3 -0.45,-0.8 ; -0.45,-0.5 -0.45,0.5 ; -0.45,0.8 -0.45,1.3 ; -0.4,-1.3 -0.4,-0.8 ; -0.4,-0.5 -0.4,0.5 ; -0.4,0.8 -0.4,1.3 ; -0.35,-1.3 -0.35,-0.8 ; -0.35,-0.5 -0.35,0.5 ; -0.35,0.8 -0.35,1.3 ; -0.3,-1.3 -0.3,-0.8 ; -0.3,-0.5 -0.3,0.5 ; -0.3,0.8 -0.3,1.3 ; -0.25,-1.3 -0.25,-0.8 ; -0.25,-0.5 -0.25,0.5 ; -0.25,0.8 -0.25,1.3 ; -0.15,-0.2 -0.15,0.2 ; -0.1,-0.2 -0.1,0.2 ; -0.05,-0.2 -0.05,0.2 ; 0,-0.2 0,0.2 ; 0.05,-0.2 0.05,0.2 ; 2,-1.1 2.2,-1.1 2.2,1.1 2,1.1 ; -1.1,-0.8 -0.2,-0.8 -0.2,-1.3 -1.4,-1.3 -1.4,1.3 -0.2,1.3 -0.2,0.8 -1.1,0.8 ; -1.1,-0.8 -1.1,0.8 ; -0.2,-0.2 -0.2,0.2 ; -0.2,-0.2 0.1,-0.2 0.1,0.2 -0.2,0.2 ; -0.2,-0.2 -0.2,-0.5 -0.6,-0.5 -0.6,-0.2 -0.9,-0.2 -0.9,0.2 -0.6,0.2 -0.6,0.5 -0.2,0.5 -0.2,0.2 ; -1.5,-1.4 2,-1.4 2,1.4 -1.5,1.4 -1.5,-1.4
  text ".Designator" at -2.378,-0.339 h1.5
3D body "TPE_B2.x_t": height 1.9, standoff 0, extent -1.975,-1.4 1.925,1.4

## CASEC_T491 [mm] "Capacitor Case C T491 Series KEMET. Density Level B"
height 2.5
pads (2):
  rrect20% 2.37x2.23 smd paste-50 mask+0.05: 1(-2.475,0.025) 2(2.475,0.025)
Top Overlay:
  rectangle: -3.625,1.875 -2.875,2.125
  rectangle: -3.375,1.625 -3.125,2.375
  lines w0.2: -1,-1.65 1,-1.65 ; -1,1.65 1,1.65
Top Paste:
  drawing of 8 lines, arcs and shapes, not listed
Top Courtyard:
  lines w0.025: -4.1,-2 -4.1,2 4.1,2 4.1,-2 -4.1,-2
Top Assembly:
  lines w0.05: -3.078,-0.5 -3,-0.5 ; -3.078,0.5 -3,0.5 ; -3,-1.1 -3.078,-1.1 -3.078,1.1 -3,1.1 ; -2.45,-1.509 -2.45,1.509 ; -2.4,-1.509 -2.4,1.509 ; -2.35,-1.509 -2.35,1.509 ; -2.3,-1.509 -2.3,1.509 ; -2.25,-1.509 -2.25,1.509 ; -2.2,-1.509 -2.2,1.509 ; -2.15,-1.509 -2.15,1.509 ; -2.1,-1.509 -2.1,1.509 ; -2.05,-1.509 -2.05,1.509 ; -2,-1.509 -2,1.509 ; -1.95,-1.509 -1.95,1.509 ; -1.9,-1.509 -1.9,1.509 ; -1.85,-1.509 -1.85,1.509 ; -1.8,-1.509 -1.8,1.509 ; -1.75,-1.509 -1.75,1.509 ; -1.7,-1.509 -1.7,1.509 ; -1.65,-1.509 -1.65,1.509 ; -1.6,-1.509 -1.6,1.509 ; -1.55,-1.509 -1.55,1.509 ; -1.5,-1.509 -1.5,1.509 ; 3,-1.1 3.078,-1.1 3.078,1.1 3,1.1 ; 3,-0.5 3.078,-0.5 ; 3,0.5 3.078,0.5 ; -3,-1.6 -3,1.6 ; -3,-1.6 -2.94,-1.54 ; -3,-1.6 3,-1.6 ; -3,1.6 3,1.6 ; -3,1.6 -2.94,1.54 ; -2.94,-1.54 -2.94,1.54 ; -2.94,-1.54 -2.5,-1.509 ; -2.94,1.54 -2.5,1.509 ; -2.5,-1.509 -2.5,1.509 ; -2.5,-1.509 2.909,-1.509 ; -2.5,1.509 2.909,1.509 ; 2.909,-1.509 2.909,1.509 ; 2.909,-1.509 3,-1.6 ; 2.909,1.509 3,1.6 ; 3,-1.6 3,1.6
  text ".Designator" at -3.806,-0.453 h2
3D body "CASEC_T491.x_t": height 2.53, standoff -0.03, extent -3.078,-1.6 3.078,1.6

## CASED_GX_561 [mm] "Capacitor GX-Series"
height 1.9
pads (2):
  rect 2.6x2.8 smd paste-50 mask+0.05: 1(-3.15,0) 2(3.15,0)
Top Overlay:
  rectangle: -4.871,1.884 -4.121,2.134
  rectangle: -4.621,1.634 -4.371,2.384
  region: -3.85,-1.75 -1.5,-1.75 -1.5,1.75 -3.85,1.75 -3.85,2.35 -0.9,2.35 -0.9,-2.35 -3.85,-2.35
  lines w0.2: 2.85,-2.35 3.85,-2.35 3.85,-1.75 ; 2.85,2.35 3.85,2.35 3.85,1.75
Top Paste:
  region: 4.4,-0.55 3.7,-0.55 3.7,-1.25 4.4,-1.25
  region: 2.6,-0.55 1.9,-0.55 1.9,-1.25 2.6,-1.25
  region: 3.5,-0.55 2.8,-0.55 2.8,-1.25 3.5,-1.25
  region: 1.9,1.25 1.9,0.55 2.6,0.55 2.6,1.25
  region: 2.8,1.25 2.8,0.55 3.5,0.55 3.5,1.25
  region: 3.7,1.25 3.7,0.55 4.4,0.55 4.4,1.25
  region: 4.4,0.35 3.7,0.35 3.7,-0.35 4.4,-0.35
  region: 2.6,0.35 1.9,0.35 1.9,-0.35 2.6,-0.35
  region: 3.5,0.35 2.8,0.35 2.8,-0.35 3.5,-0.35
  rectangle: -4.4,-1.25 -3.7,-0.55
  rectangle: -2.6,-1.25 -1.9,-0.55
  rectangle: -3.5,-1.25 -2.8,-0.55
  region: -2.6,1.25 -2.6,0.55 -1.9,0.55 -1.9,1.25
  region: -3.5,1.25 -3.5,0.55 -2.8,0.55 -2.8,1.25
  region: -4.4,1.25 -4.4,0.55 -3.7,0.55 -3.7,1.25
  rectangle: -4.4,-0.35 -3.7,0.35
  rectangle: -2.6,-0.35 -1.9,0.35
  rectangle: -3.5,-0.35 -2.8,0.35
Top Courtyard:
  lines w0.025: -5.1,-2.8 5.1,-2.8 5.1,2.8 -5.1,2.8 -5.1,-2.8
Top Assembly:
  lines w0.05: -3.7,-1.05 -3.609,-1.05 ; -3.7,1.05 -3.609,1.05 ; -3.65,-1.2 -3.65,-2.15 ; -3.65,1.2 -3.65,2.15 ; -3.5,-2.05 -3.5,2.05 ; -3.45,-2.05 -3.45,2.05 ; -3.4,-2.05 -3.4,2.05 ; -3.35,-2.05 -3.35,2.05 ; -3.3,-2.05 -3.3,2.05 ; -3.25,-2.05 -3.25,2.05 ; -3.2,-2.05 -3.2,2.05 ; -3.15,-2.05 -3.15,2.05 ; -3.1,-2.05 -3.1,2.05 ; -3.05,-2.05 -3.05,2.05 ; -3,-2.05 -3,2.05 ; -2.95,-2.05 -2.95,2.05 ; -2.9,-2.05 -2.9,2.05 ; -2.85,-2.05 -2.85,2.05 ; -2.8,-2.05 -2.8,2.05 ; -2.75,-2.05 -2.75,2.05 ; -2.7,-2.05 -2.7,2.05 ; -2.65,-2.05 -2.65,2.05 ; -2.6,-2.05 -2.6,2.05 ; -2.55,-2.05 -2.55,2.05 ; 3.65,-1.2 3.65,-2.15 ; 3.65,1.2 3.65,2.15 ; 3.7,-1.05 3.609,-1.05 ; 3.7,1.05 3.609,1.05 ; -3.65,-2.15 -3.55,-2.05 ; -3.65,-2.15 3.65,-2.15 ; -3.65,2.15 -3.55,2.05 ; -3.65,2.15 3.65,2.15 ; -3.609,-1.05 -3.609,1.05 ; -3.609,-1.05 -3.617,-1.2 -3.7,-1.2 -3.7,1.2 -3.617,1.2 -3.609,1.05 ; -3.55,-2.05 -3.55,2.05 ; -3.55,-2.05 3.55,-2.05 ; -3.55,2.05 3.55,2.05 ; 3.55,-2.05 3.65,-2.15 ; 3.55,-2.05 3.55,2.05 ; 3.55,2.05 3.65,2.15 ; 3.609,-1.05 3.609,1.05 ; 3.609,-1.05 3.617,-1.2 3.7,-1.2 3.7,1.2 3.617,1.2 3.609,1.05
  text ".Designator" at -4.011,-0.453 h2
3D body "EEFGX0D561R.x_t": height 1.93, standoff 0, extent -3.7,-2.15 3.7,2.15